# Altium footprint library CAPC0603X33LC.PcbLib: 1 footprints
Each footprint in its own frame and in the unit in brackets; x right, y up, seen from the top. Pads: shape width x height; smd on the part's side, far side on the other; paste and mask are expansions set on the pad; w line width, h text height; cw(c..) or ccw(c..) is an arc to the next point about the centre after c.
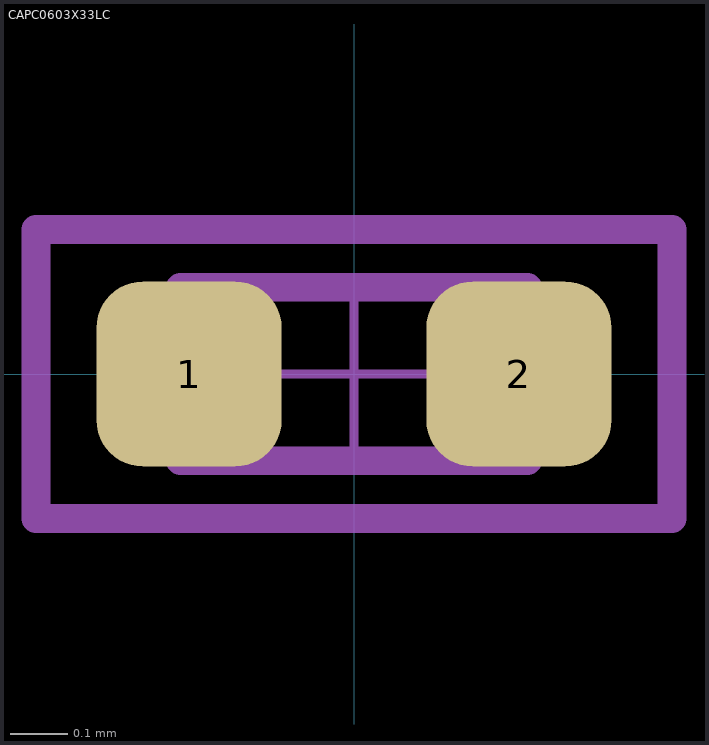
[diagram p0: the footprint, top view; thin cyan lines are the x and y axes]

## CAPC0603X33LC [mm] "Soldermsk Customized for 3mil (.075mm) Clearance with 4mil (0.1mm) Web"
height 0.33
pads (2):
  rrect50% 0.32x0.32 smd paste+0: 1(-0.285,0) 2(0.285,0)
Top Component Outline:
  lines w0.001: -0.315,-0.165 -0.315,0.165 0.315,0.165 0.315,-0.165 -0.315,-0.165
  lines w0.05: -0.3,-0.15 -0.3,0.15 0.3,0.15 0.3,-0.15 -0.3,-0.15
Top Courtyard:
  lines w0.015: -0.15,0 0.15,0 ; 0,-0.15 0,0.15
  lines w0.05: -0.55,-0.25 -0.55,0.25 0.55,0.25 0.55,-0.25 -0.55,-0.25
3D body: height 0.33, standoff 0.02, extent -0.315,-0.165 -0.165,0.165
3D body: height 0.33, standoff 0.02, extent 0.165,-0.165 0.315,0.165
3D body: height 0.33, standoff 0.02, extent -0.165,-0.165 0.165,0.165